# EAGLE library part LY30 (library relay)
RELAY 3 x switch, Omron
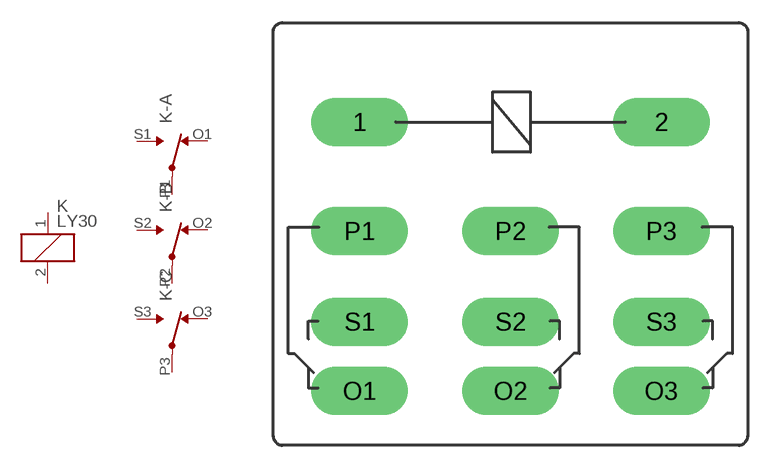
[diagram p16: symbol with the pads of LY30; footprint LY30]

Designator prefix K; gates C=K -A=U -B=U -C=U

## LY30  [LY30]
1  C:1  pas
2  C:2  pas
O1  -A:NC  pas
O2  -B:NC  pas
O3  -C:NC  pas
P1  -A:COM  pas
P2  -B:COM  pas
P3  -C:COM  pas
S1  -A:NO  pas
S2  -B:NO  pas
S3  -C:NO  pas

## Footprint LY30 (pad centres in mm)
RELAY 3 x switch, Omron
drill 2.21 long: 1 -10.008,0; 2 10.008,0; O1 -10.008,-17.856; O2 0,-17.856; O3 10.008,-17.856; P1 -10.008,-7.239; P2 0,-7.239; P3 10.008,-7.239; S1 -10.008,-13.259; S2 0,-13.259; S3 10.008,-13.259